# Altium footprint library GM_P7LM32.PcbLib: 1 footprints
Each footprint in its own frame and in the unit in brackets; x right, y up, seen from the top. Pads: shape width x height; smd on the part's side, far side on the other; paste and mask are expansions set on the pad; w line width, h text height; cw(c..) or ccw(c..) is an arc to the next point about the centre after c.
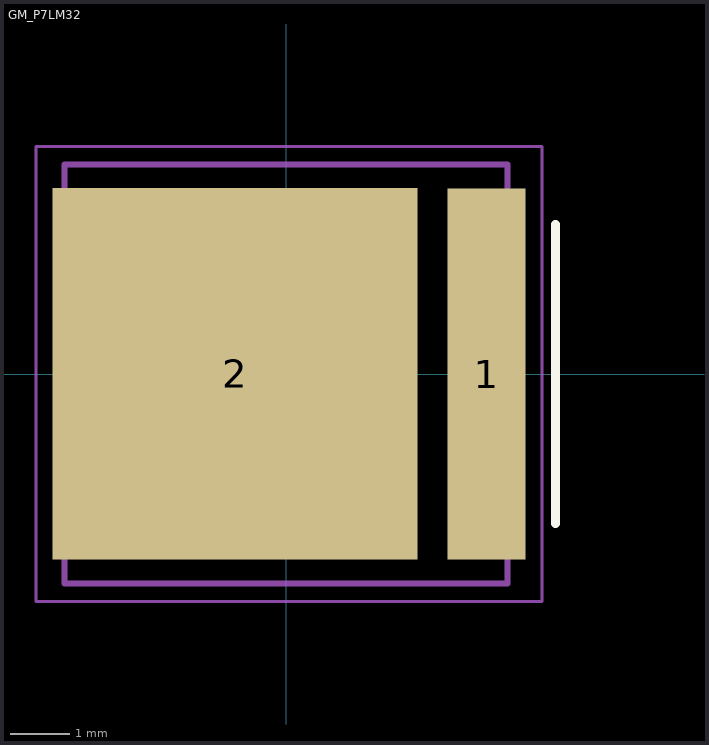
[diagram p0: the footprint, top view; thin cyan lines are the x and y axes]

## GM_P7LM32 [mm]
height 0.7
pads (2):
  rect 1.3x6.2 smd: 1(3.348,0)
  rect 6.1x6.2 smd: 2(-0.852,0.003)
Top Overlay:
  lines w0.152: 4.5,-2.5 4.5,2.5
Mechanical 13:
  lines w0.1: -3.7,-3.5 3.7,-3.5 3.7,3.5 -3.7,3.5 -3.7,-3.5
Mechanical 15:
  lines w0.05: -4.181,-3.8 -4.181,3.8 4.277,3.8 4.277,-3.8 -4.181,-3.8
3D body: height 0.8, standoff 0.7, extent -3.26,-3.26 3.26,3.26
3D body: height 0.7, standoff -0.01, extent -3.7,-3.5 3.7,3.5